# EAGLE library part 87264-38_S (library con-molex-milli-grid)
RECEPTACAL
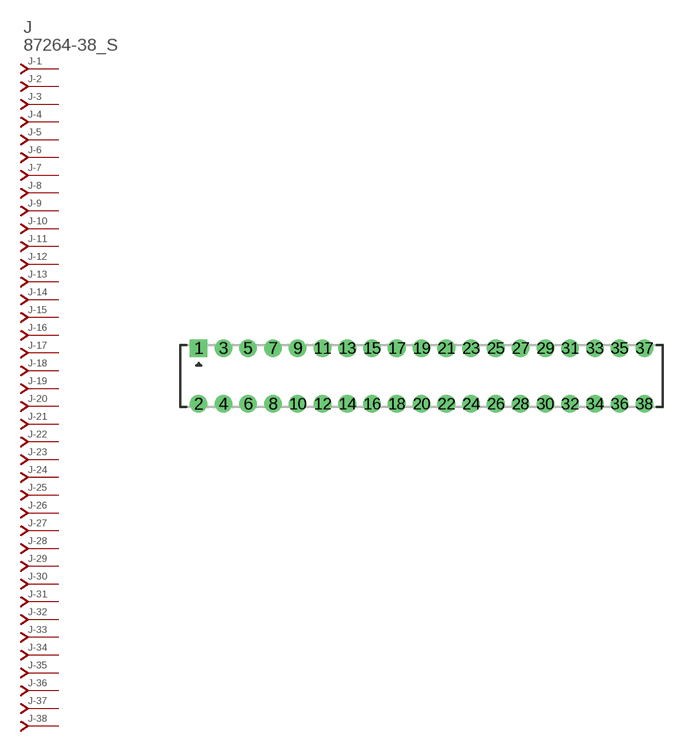
[diagram p298: symbol with the pads of 87264-38; footprint 87264-38]

Designator prefix J; gates -1=J-NV -2=J-N -3=J-N -4=J-N -5=J-N -6=J-N -7=J-N -8=J-N -9=J-N -10=J-N -11=J-N -12=J-N -13=J-N -14=J-N -15=J-N -16=J-N -17=J-N -18=J-N -19=J-N -20=J-N -21=J-N -22=J-N -23=J-N -24=J-N -25=J-N -26=J-N -27=J-N -28=J-N -29=J-N -30=J-N -31=J-N -32=J-N -33=J-N -34=J-N -35=J-N -36=J-N -37=J-N -38=J-N

## 87264-38_S  [87264-38]
1  -1:J  pas
2  -2:J  pas
3  -3:J  pas
4  -4:J  pas
5  -5:J  pas
6  -6:J  pas
7  -7:J  pas
8  -8:J  pas
9  -9:J  pas
10  -10:J  pas
11  -11:J  pas
12  -12:J  pas
13  -13:J  pas
14  -14:J  pas
15  -15:J  pas
16  -16:J  pas
17  -17:J  pas
18  -18:J  pas
19  -19:J  pas
20  -20:J  pas
21  -21:J  pas
22  -22:J  pas
23  -23:J  pas
24  -24:J  pas
25  -25:J  pas
26  -26:J  pas
27  -27:J  pas
28  -28:J  pas
29  -29:J  pas
30  -30:J  pas
31  -31:J  pas
32  -32:J  pas
33  -33:J  pas
34  -34:J  pas
35  -35:J  pas
36  -36:J  pas
37  -37:J  pas
38  -38:J  pas

## Footprint 87264-38 (pad centres in mm)
RECEPTACAL Dual Row, Side Entry
drill 0.914 square: 1 -18,2.25
drill 0.914: 2 -18,-2.25; 3 -16,2.25; 4 -16,-2.25; 5 -14,2.25; 6 -14,-2.25; 7 -12,2.25; 8 -12,-2.25; 9 -10,2.25; 10 -10,-2.25; 11 -8,2.25; 12 -8,-2.25; 13 -6,2.25; 14 -6,-2.25; 15 -4,2.25; 16 -4,-2.25; 17 -2,2.25; 18 -2,-2.25; 19 0,2.25; 20 0,-2.25; 21 2,2.25; 22 2,-2.25; 23 4,2.25; 24 4,-2.25; 25 6,2.25; 26 6,-2.25; 27 8,2.25; 28 8,-2.25; 29 10,2.25; 30 10,-2.25; 31 12,2.25; 32 12,-2.25; 33 14,2.25; 34 14,-2.25; 35 16,2.25; 36 16,-2.25; 37 18,2.25; 38 18,-2.25